# EAGLE library part DG9422DV-T1-E3 (library Vishay_By_element14_Batch_1)
CMOS Analog Switches
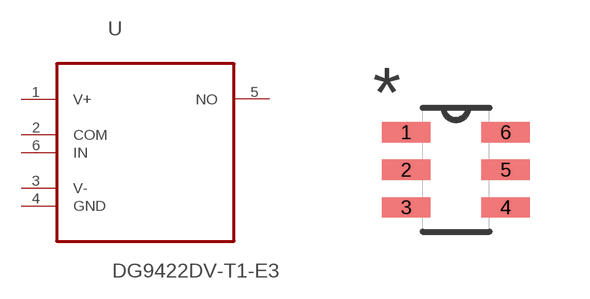
[diagram p70: symbol with the pads of SOP95P285X110-6N; footprint SOP95P285X110-6N]

Designator prefix U

## DG9422DV-T1-E3 (MPN: DG9422DV-T1-E3; OC_FARNELL: 1469427; OC_NEWARK: 06J4753; PACKAGE: TSOP-6; SUPPLIER: Vishay Siliconix)  [SOP95P285X110-6N]
1  V+  pwr
2  COM  pas
3  V-  pwr
4  GND  pas
5  NO  pas
6  IN  in

## Footprint SOP95P285X110-6N (pad centres in mm)
smd 1.219 x 0.508: 1 -1.245,0.94; 2 -1.245,0; 3 -1.245,-0.94; 4 1.245,-0.94; 5 1.245,0; 6 1.245,0.94